# Altium schematic symbol library Transistors_EFR.SchLib: 17 symbols
Pins are listed as number, name and electrical type; pins without a type are passive.

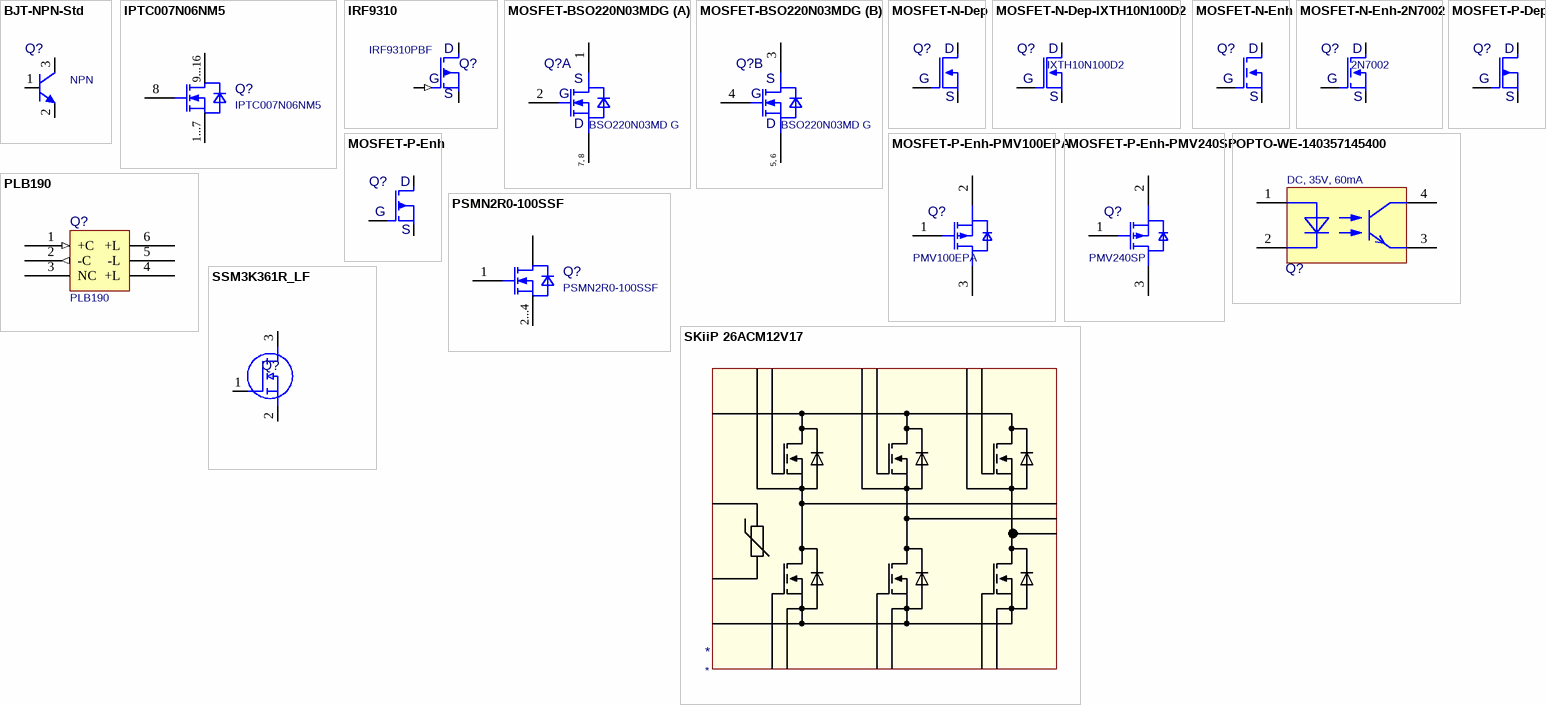
[diagram p0: symbols BJT-NPN-Std to SSM3K361R_LF]

## BJT-NPN-Std
designator Q?, comment NPN
General Purpose Transistor, NPN Silicon, 3-Pin; fT Min (MHz): *; Package: *; IC Continuous (A): *; Polarity: NPN; Manufacturer: *; PartNumber: *
footprint SOT23 (generischer SOT23 Footpint)
pins: 1 B, 2 E, 3 C

## IPTC007N06NM5
designator Q?
Insulated-Gate Field-Effect Transistor (IGFET), N-Channel, Enhancement, Body Diode, Pin 1 Source, 2 Source, 3 Source , 4 Source, 5 Source, 6 Source, 7 Source, 8 Gate, 9 Drain, 10 Drain, 11 Drain, 12 Drain, 13 Drain, 14 Drain, 15 Drain, 16 Drain, 16 Pins; Manufacturer: Infineon Technologies; Package Reference: PG-HDSOP-16-2; Manufacturer Order Number: IPTC007N06NM5
footprint SOIC120P1500X235-16N-1-V (SOIC,1.20mm pitch;16 pin,10.15mm W X 9.90mm L X 2.35mm H body)
pins: 1 SOURCE1, 2 SOURCE2, 3 SOURCE3, 4 SOURCE4, 5 SOURCE5, 6 SOURCE6, 7 SOURCE7, 8 GATE, 9 DRAIN1, 10 DRAIN2, 11 DRAIN3, 12 DRAIN4, 13 DRAIN5, 14 DRAIN6, 15 DRAIN7, 16 DRAIN8
text: 9...16; 1...7

## IRF9310
designator Q?, comment IRF9310PBF
Power MOSFET; Manufacturer: Infineon; Polarity: P-Channel; PinNumber: 8; ComponentLink1Description: Datasheet; ComponentLink1URL: https://www.infineon.com/dgdl/irf9310pbf-1.pdf?fileId=5546d462533600a40153561114d81d97; ComponentLink2Description: Hersteller; ComponentLink2URL: https://www.infineon.com/cms/de/product/power/mosfet/20v-250v-p-channel-power-mosfet/irf9310pbf-1/; PartNumber: IRF9310PBF
footprint SOIC-08
pins: 1 S, 2 S, 3 S, 4 G (in), 5 D, 6 D, 7 D, 8 D

## MOSFET-BSO220N03MDG
designator Q?, comment BSO220N03MD G
OptiMOS 3 M-Series Power-MOSFET, 30V; Manufacturer: Infineon Technologies; Manufacturer P/N: BSO220N03MD G; PackageReference: PG-DSO-8-40; ComponentLink1Description: Datasheet; ComponentLink1URL: https://www.infineon.com/dgdl/BSO220N03MD_rev1.1.pdf?fileId=db3a30431b0626df011b0d922ec17e5c; ComponentLink2Description: Manufacturer; ComponentLink2URL: https://www.infineon.com/cms/en/product/power/mosfet/12v-300v-n-channel-power-mosfet/bso220n03md-g
footprint PG-DSO-8-16_L (SOP, 8-Leads, Body 4.9x3.9mm, Pitch 1.27mm, IPC High Density)
footprint PG-DSO-8-40-V (SOIC,1.27mm pitch;8 pin,3.90mm W X 4.90mm L X 1.75mm H body)
footprint PG-DSO-8-16_N (SOP, 8-Leads, Body 4.9x3.9mm, Pitch 1.27mm, IPC Medium Density)
footprint PG-DSO-8-16_M (SOP, 8-Leads, Body 4.9x3.9mm, Pitch 1.27mm, IPC Low Density)
part A pins: 1 SOURCE1, 2 GATE1, 7 DRAIN1, 8 DRAIN1
part B pins: 3 SOURCE2, 4 GATE2, 5 DRAIN2, 6 DRAIN2
part A text: S; G; D; 7, 8
part B text: S; G; D; 5, 6

## MOSFET-N-Dep
designator Q?
n channel MOSFET, depletion type, bulk connected to source; Manufacturer P/N: xxxx; Pin Number: 3; Manufacturer: *
footprint TO-247
footprint SOT23 (generischer SOT23 Footpint)
pins: 1 G, 2 S, 3 D

## MOSFET-N-Dep-IXTH10N100D2
designator Q?, comment IXTH10N100D2
N Channel MOSFET, depletion type; Manufacturer: Littlefuse; Pin Number: 3; Manufacturer P/N: IXTH10N100D2
footprint TO-247
pins: 1 G, 2 D, 3 S

## MOSFET-N-Enh
designator Q?
n channel MOSFET, enhancement type, bulk connected to source; Manufacturer P/N: xxxx; Pin Number: 3; Manufacturer: *
footprint TO-247
footprint SOT23 (generischer SOT23 Footpint)
pins: 1 G, 2 S, 3 D

## MOSFET-N-Enh-2N7002
designator Q?, comment 2N7002
n channel MOSFET, enhancement type, bulk connected to source / 60 V, 300 mA; Manufacturer: Nexperia; Pin Number: 3; ComponentLink1Description: Manufacturer; ComponentLink1URL: https://www.nexperia.com/products/mosfets/small-signal-mosfets/2N7002.html; ComponentLink2Description: Datasheet; ComponentLink2URL: https://assets.nexperia.com/documents/data-sheet/2N7002.pdf; Supplier 1: Mouser; Supplier Part Number 1: 771-2N7002P-215; Manufacturer P/N: 2N7002
footprint SOT23 (generischer SOT23 Footpint)
pins: 1 G, 2 S, 3 D

## MOSFET-P-Dep
designator Q?
p channel MOSFET, depletion type, bulk connected to source; Pin Number: 3; Manufacturer: *; Manufacturer P/N: *
footprint TO-247
footprint SOT23 (generischer SOT23 Footpint)
pins: 1 G, 2 S, 3 D

## MOSFET-P-Enh
designator Q?
p channel MOSFET, enhancement type, bulk connected to source; Pin Number: 3; Manufacturer: *; Manufacturer P/N: *
footprint TO-247
footprint SOT23 (generischer SOT23 Footpint)
simulation model PMOSFET_Level1 (Model Description)
pins: 1 G, 2 S, 3 D

## MOSFET-P-Enh-PMV100EPA
designator Q?, comment PMV100EPA
60 V, +-20Vgs, P-channel Trench MOSFET SOT23; Manufacturer: Nexperia; Pin Number: 3; Manufacturer P/N: PMV100EPA; Mounting Technology: SMT; Supplier 1: Mouser; Supplier Part Number 1: 771-PMV100EPAR; Supplier 2: Digikey; Supplier Part Number 2: 1727-PMV100EPARCT-ND; ComponentLink1Description: Website; ComponentLink1URL: https://www.nexperia.com/products/mosfets/small-signal-mosfets/PMV100EPA.html; ComponentLink2Description: Datasheet; ComponentLink2URL: https://assets.nexperia.com/documents/data-sheet/PMV100EPA.pdf
footprint SOT23 (generischer SOT23 Footpint)
pins: 1 G, 2 S, 3 D

## MOSFET-P-Enh-PMV240SP
designator Q?, comment PMV240SP
100 V, +-25Vgs, P-channel Trench MOSFET SOT23; Manufacturer: Nexperia; Pin Number: 3; Manufacturer P/N: PMV240SP; Mounting Technology: SMT; Supplier 1: Mouser; Supplier Part Number 1: 771-PMV240SPR; Supplier 2: Digikey; Supplier Part Number 2: 1727-PMV240SPRCT-ND; ComponentLink1Description: Website; ComponentLink1URL: https://www.nexperia.com/products/mosfets/small-signal-mosfets/PMV240SP.html; ComponentLink2Description: Datasheet; ComponentLink2URL: https://assets.nexperia.com/documents/data-sheet/PMV240SP.pdf
footprint SOT23 (generischer SOT23 Footpint)
pins: 1 G, 2 S, 3 D

## OPTO-WE-140357145400
designator Q?, comment DC, 35V, 60mA
WL-OCPT Optocoupler Phototransistor, SOP4, 1 Channel, DC, 35V, 60mA; PartNumber: 140357145400; Manufacturer: Wurth Elektronik; Current Transfer Ratio Max: 600%; Current Transfer Ratio Min: 300%; Isolation Voltage: 3750Vrms; Number of Channels: 1; Category: Optocoupler Phototransistor; Match Code: WL-OCPT; ComponentLink1Description: Website Link; ComponentLink1URL: https://www.we-online.com/redexpert/article/140357145400?ad; ComponentLink2Description: Datasheet Link; ComponentLink2URL: https://www.we-online.com/redexpert/spec/140357145400?ad; Mount: Surface Mount; Operating Temperature Max: 110°C; Operating Temperature Min: -55°C; Packaging: Tape and Reel; Case/Size Code: SOP4; Length: 7mm; Width: 3.6mm; Height: 2.1mm; Collector Emitter Voltage: 35V; Forward Current: 60mA; Input: DC
footprint WL-OCPT_SOP4
simulation model Series_357_140357145400
pins: 1 Anode, 2 Cathode, 3 Emitter, 4 Collector

## PLB190
designator Q?
Single-Pole, Normally Closed OptoMOS® Relay; Manufacturer: IXYS; ComponentLink1Description: Datasheet; ComponentLink1URL: http://www.ixysic.com/home/pdfs.nsf/www/PLB190.pdf/$file/PLB190.pdf; PartNumber: PLB190
footprint IXYS_PLB190
footprint IXYS_PLB190S
pins: 1 +C (in), 2 -C (out), 3 NC, 4 +L (power), 5 -L (power), 6 +L (power)

## PSMN2R0-100SSF
designator Q?  PartNumber: PSMN2R0-100SSF  (hidden comment: *)
footprint PSMN
pins: 1 GATE, 2 SOURCE1, 3 SOURCE2, 4 SOURCE3, 5 DRAIN
text: 2...4

## SKiiP 26ACM12V17
designator *
footprint SKiiP 26ACM12V17
pins: 1 DC-, 2 DC+, 3 S1, 4 G1, 5 S3, 6 G3, 7 S5, 8 G5, 9 G2, 10 S2, 11 G4, 12 S4, 13 G6, 14 S6, 15 U, 16 V, 17 W, 18 PTC+, 19 PTC-

## SSM3K361R_LF
designator Q?
Silicon N-channel MOS Power Management Switches DC-DC Converters; Manufacturer_Name: Toshiba; Manufacturer_Part_Number: SSM3K361R,LF; Geometry.Height: 0.88mm; Mouser Part Number: 757-SSM3K361RLF; Mouser Price/Stock: https://www.mouser.co.uk/ProductDetail/Toshiba/SSM3K361RLF?qs=kdd6aVn74hzchJRi%252BUbybA%3D%3D; Arrow Part Number: SSM3K361R,LF; Arrow Price/Stock: https://www.arrow.com/en/products/ssm3k361rlf/toshiba; Mouser Testing Part Number: *; Mouser Testing Price/Stock: *; Datasheet Link: http://toshiba.semicon-storage.com/info/docget.jsp?did=36685&prodName=SSM3K361R
footprint SOT95P240X88-3N
pins: 1 G, 2 S, 3 D